# Altium schematic symbol library SamacSys_ROSZCZYK.SchLib: 4 symbols
Pins are listed as number, name and electrical type; pins without a type are passive.

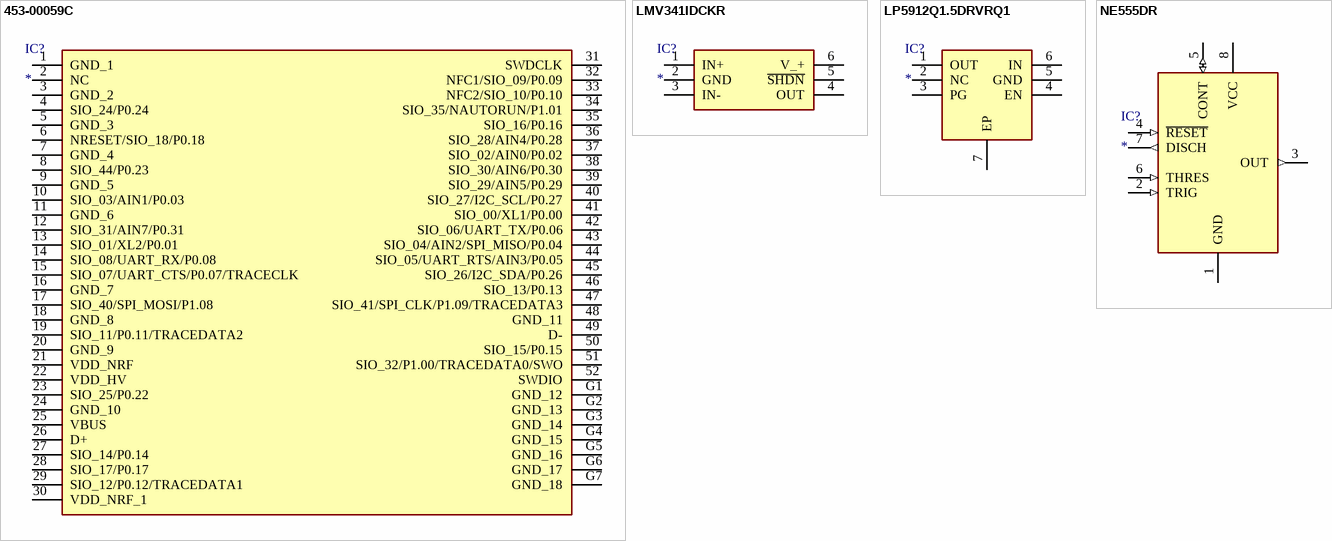
[diagram p0: symbols 453-00059C to NE555DR]

## 453-00059C
designator IC?
Integrated Circuit; Manufacturer_Name: Laird - Wireless & Thermal Systems; Manufacturer_Part_Number: 453-00059C; Description: Bluetooth Modules (802.15.1) BL653u module (Nordic nRF52833) Integrated antenna (Cut Tape); Datasheet Link: https://connectivity-staging.s3.us-east-2.amazonaws.com/2021-01/CS-DS-BL653u%20v1_1.pdf; Height: 1.6mm
footprint 45300059C
pins: 1 GND_1, 2 NC, 3 GND_2, 4 SIO_24/P0.24, 5 GND_3, 6 NRESET/SIO_18/P0.18, 7 GND_4, 8 SIO_44/P0.23, 9 GND_5, 10 SIO_03/AIN1/P0.03, 11 GND_6, 12 SIO_31/AIN7/P0.31, 13 SIO_01/XL2/P0.01, 14 SIO_08/UART_RX/P0.08, 15 SIO_07/UART_CTS/P0.07/TRACECLK, 16 GND_7, 17 SIO_40/SPI_MOSI/P1.08, 18 GND_8, 19 SIO_11/P0.11/TRACEDATA2, 20 GND_9, 21 VDD_NRF, 22 VDD_HV, 23 SIO_25/P0.22, 24 GND_10, 25 VBUS, 26 D+, 27 SIO_14/P0.14, 28 SIO_17/P0.17, 29 SIO_12/P0.12/TRACEDATA1, 30 VDD_NRF_1, 31 SWDCLK, 32 NFC1/SIO_09/P0.09, 33 NFC2/SIO_10/P0.10, 34 SIO_35/NAUTORUN/P1.01, 35 SIO_16/P0.16, 36 SIO_28/AIN4/P0.28, 37 SIO_02/AIN0/P0.02, 38 SIO_30/AIN6/P0.30, 39 SIO_29/AIN5/P0.29, 40 SIO_27/I2C_SCL/P0.27, 41 SIO_00/XL1/P0.00, 42 SIO_06/UART_TX/P0.06, 43 SIO_04/AIN2/SPI_MISO/P0.04, 44 SIO_05/UART_RTS/AIN3/P0.05, 45 SIO_26/I2C_SDA/P0.26, 46 SIO_13/P0.13, 47 SIO_41/SPI_CLK/P1.09/TRACEDATA3, 48 GND_11, 49 D-, 50 SIO_15/P0.15, 51 SIO_32/P1.00/TRACEDATA0/SWO, 52 SWDIO, G1 GND_12, G2 GND_13, G3 GND_14, G4 GND_15, G5 GND_16, G6 GND_17, G7 GND_18

## LMV341IDCKR
designator IC?
Integrated Circuit; Manufacturer_Name: Texas Instruments; Manufacturer_Part_Number: LMV341IDCKR; Datasheet Link: http://www.ti.com/lit/gpn/lmv341; Height: 1.1mm; Mouser Part Number: 595-LMV341IDCKR; Mouser Price/Stock: https://www.mouser.co.uk/ProductDetail/Texas-Instruments/LMV341IDCKR/?qs=paYhMW8qfiso3OfEEvyk%2Fg%3D%3D; Arrow Part Number: LMV341IDCKR; Arrow Price/Stock: https://www.arrow.com/en/products/lmv341idckr/texas-instruments
footprint SOT65P210X110-6N
pins: 1 IN+, 2 GND, 3 IN-, 4 OUT, 5 ~{SHDN}, 6 V_+

## LP5912Q1.5DRVRQ1
designator IC?
Integrated Circuit; Manufacturer_Name: Texas Instruments; Manufacturer_Part_Number: LP5912Q1.5DRVRQ1; Datasheet Link: http://www.ti.com/lit/gpn/lp5912-q1; Height: 0.8mm; Mouser Part Number: 595-LP5912Q1.5DRVRQ1; Mouser Price/Stock: https://www.mouser.co.uk/ProductDetail/Texas-Instruments/LP5912Q15DRVRQ1?qs=n%252BTO0c4TDSYVegszUJ4LKA%3D%3D; Arrow Part Number: LP5912Q1.5DRVRQ1; Arrow Price/Stock: https://www.arrow.com/en/products/lp5912q1.5drvrq1/texas-instruments
footprint SON65P200X200X80-7N
pins: 1 OUT, 2 NC, 3 PG, 4 EN, 5 GND, 6 IN, 7 EP

## NE555DR
designator IC?
Integrated Circuit; Manufacturer_Name: Texas Instruments; Manufacturer_Part_Number: NE555DR; Datasheet Link: http://www.ti.com/lit/ds/symlink/ne555.pdf; Height: 1.75mm; Mouser Part Number: 595-NE555DR; Mouser Price/Stock: https://www.mouser.com/Search/Refine.aspx?Keyword=595-NE555DR; RS Part Number: 1218414; RS Price/Stock: http://uk.rs-online.com/web/p/products/1218414
footprint SOIC127P600X175-8N
pins: 1 GND (power), 2 TRIG (in), 3 OUT (out), 4 ~{RESET} (in), 5 CONT (io), 6 THRES (in), 7 DISCH (out), 8 VCC (power)